# Altium footprint library VSSOP-10_L3.0-W3.0-P0.50-LS4.9-BL.PcbLib: 1 footprints
Each footprint in its own frame and in the unit in brackets; x right, y up, seen from the top. Pads: shape width x height; smd on the part's side, far side on the other; paste and mask are expansions set on the pad; w line width, h text height; cw(c..) or ccw(c..) is an arc to the next point about the centre after c.
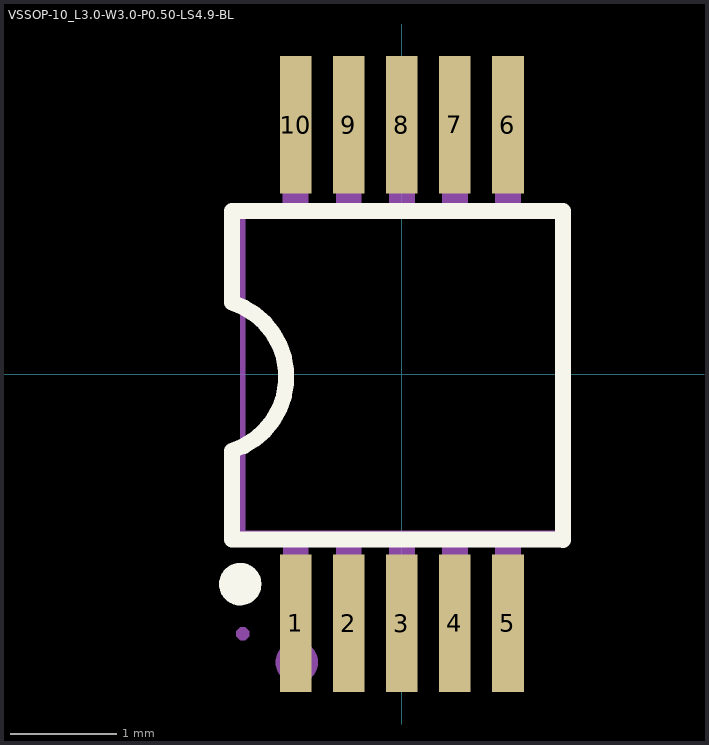
[diagram p0: the footprint, top view; thin cyan lines are the x and y axes]

## VSSOP-10_L3.0-W3.0-P0.50-LS4.9-BL [mm]
pads (10):
  rect 0.3x1.3 smd paste+0 mask+0.051: 1(-1,-2.35) 2(-0.5,-2.35) 3(0,-2.35) 4(0.5,-2.35) 5(1,-2.35) 6(1,2.35) 7(0.5,2.35) 8(0,2.35) 9(-0.5,2.35) 10(-1,2.35)
Top Overlay:
  circle w0.2: c-1.524,-1.981 r0.1
  lines w0.15: -1.603,-1.562 -1.603,-0.724 ccw(c-1.82,-0.026) -1.603,0.673 ; -1.603,0.698 -1.603,1.537 ; -1.578,-1.562 1.522,-1.562 ; -1.578,1.537 1.522,1.537 1.522,-1.564
Mechanical 2:
  circle w0.2: c-0.99,-2.718 r0.1
Mechanical 6:
  lines w0.051: -1.5,-1.5 1.5,-1.5 1.5,1.5 -1.5,1.5 -1.5,-1.5
Mechanical 7:
  region: -1.12,1.49 -1.12,1.91 -0.88,1.91 -0.88,1.49
  region: -0.62,1.49 -0.62,1.91 -0.38,1.91 -0.38,1.49
  region: -0.12,1.49 -0.12,1.91 0.12,1.91 0.12,1.49
  region: 0.38,1.49 0.38,1.91 0.62,1.91 0.62,1.49
  region: 0.88,1.49 0.88,1.91 1.12,1.91 1.12,1.49
  region: 0.88,-1.91 0.88,-1.49 1.12,-1.49 1.12,-1.91
  region: 0.38,-1.91 0.38,-1.49 0.62,-1.49 0.62,-1.91
  region: -0.12,-1.91 -0.12,-1.49 0.12,-1.49 0.12,-1.91
  region: -0.62,-1.91 -0.62,-1.49 -0.38,-1.49 -0.38,-1.91
  region: -1.12,-1.91 -1.12,-1.49 -0.88,-1.49 -0.88,-1.91
Mechanical 8:
  region: -1.44,-2.45 -1.44,-2.475 -1.475,-2.51 -1.525,-2.51 -1.56,-2.475 -1.56,-2.45 -1.56,-2.425 -1.525,-2.39 -1.475,-2.39 -1.44,-2.425 -1.44,-2.45
Mechanical 9:
  region: -1.12,1.9 -1.12,2.45 -0.88,2.45 -0.88,1.9
  region: -0.62,1.9 -0.62,2.45 -0.38,2.45 -0.38,1.9
  region: -0.12,1.9 -0.12,2.45 0.12,2.45 0.12,1.9
  region: 0.38,1.9 0.38,2.45 0.62,2.45 0.62,1.9
  region: 0.88,1.9 0.88,2.45 1.12,2.45 1.12,1.9
  region: 0.88,-2.45 0.88,-1.9 1.12,-1.9 1.12,-2.45
  region: 0.38,-2.45 0.38,-1.9 0.62,-1.9 0.62,-2.45
  region: -0.12,-2.45 -0.12,-1.9 0.12,-1.9 0.12,-2.45
  region: -0.62,-2.45 -0.62,-1.9 -0.38,-1.9 -0.38,-2.45
  region: -1.12,-2.45 -1.12,-1.9 -0.88,-1.9 -0.88,-2.45